# Altium schematic symbol library Components - 12.02.20 - 18.05.SchLib: 1 symbol
Pins are listed as number, name and electrical type; pins without a type are passive.

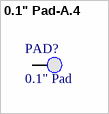
[diagram p0: symbol 0.1" Pad-A.4]

## 0.1" Pad-A.4
designator PAD?, comment 0.1" Pad
footprint PCBComponent
pins: 1 PAD